# Altium schematic symbol library DLW5BTM142TQ2.SchLib: 1 symbol
Pins are listed as number, name and electrical type; pins without a type are passive.

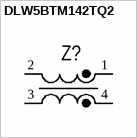
[diagram p0: symbol DLW5BTM142TQ2]

## DLW5BTM142TQ2
designator Z?  (value not drawn)
pins: 1, 2, 3, 4